# EAGLE library part BCM857BS (library vikc-transistor)
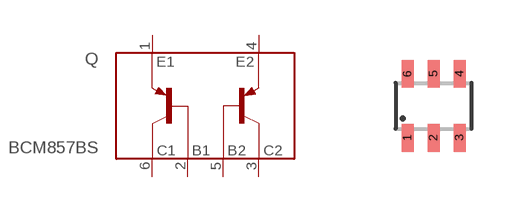
[diagram p0: symbol with the pads of SOT363; footprint SOT363]

Designator prefix Q

## BCM857BS  [SOT363]
1  E1  pas
2  B1  pas
3  C2  pas
4  E2  pas
5  B2  pas
6  C1  pas

## Footprint SOT363 (pad centres in mm)
SOT363 Source: Infineon-BCR22PN-DS-v01_01-en.pdf
smd 0.3 x 0.7: 1 -0.65,-0.8; 2 0,-0.8; 3 0.65,-0.8; 4 0.65,0.8; 5 0,0.8; 6 -0.65,0.8